# Altium schematic symbol library Schlib1.SchLib: 3 symbols
Pins are listed as number, name and electrical type; pins without a type are passive.

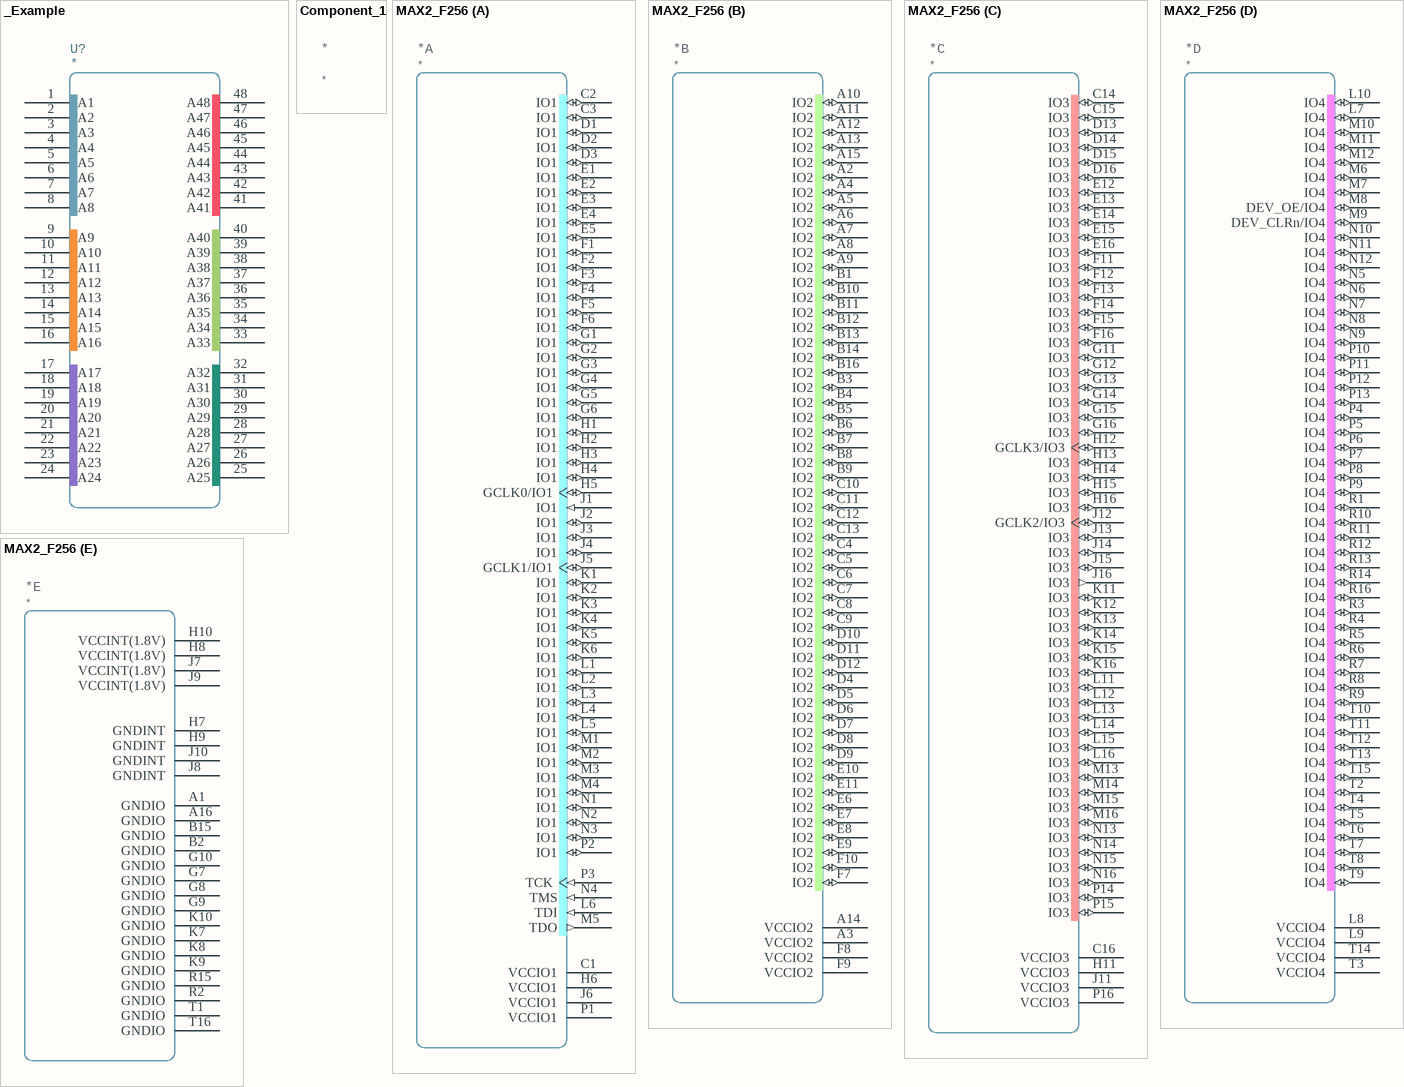
[diagram p0: symbols _Example to MAX2_F256]

## _Example
designator U?
pins: 1 A1, 2 A2, 3 A3, 4 A4, 5 A5, 6 A6, 7 A7, 8 A8, 9 A9, 10 A10, 11 A11, 12 A12, 13 A13, 14 A14, 15 A15, 16 A16, 17 A17, 18 A18, 19 A19, 20 A20, 21 A21, 22 A22, 23 A23, 24 A24, 25 A25, 26 A26, 27 A27, 28 A28, 29 A29, 30 A30, 31 A31, 32 A32, 33 A33, 34 A34, 35 A35, 36 A36, 37 A37, 38 A38, 39 A39, 40 A40, 41 A41, 42 A42, 43 A43, 44 A44, 45 A45, 46 A46, 47 A47, 48 A48

## Component_1
designator *

## MAX2_F256
designator *
part A pins: C1 VCCIO1, C2 IO1 (io), C3 IO1 (io), D1 IO1 (io), D2 IO1 (io), D3 IO1 (io), E1 IO1 (io), E2 IO1 (io), E3 IO1 (io), E4 IO1 (io), E5 IO1 (io), F1 IO1 (io), F2 IO1 (io), F3 IO1 (io), F4 IO1 (io), F5 IO1 (io), F6 IO1 (io), G1 IO1 (io), G2 IO1 (io), G3 IO1 (io), G4 IO1 (io), G5 IO1 (io), G6 IO1 (io), H1 IO1 (io), H2 IO1 (io), H3 IO1 (io), H4 IO1 (io), H5 GCLK0/IO1 (io), H6 VCCIO1, J1 IO1 (in), J2 IO1 (io), J3 IO1 (io), J4 IO1 (io), J5 GCLK1/IO1 (io), J6 VCCIO1, K1 IO1 (io), K2 IO1 (io), K3 IO1 (io), K4 IO1 (io), K5 IO1 (io), K6 IO1 (io), L1 IO1 (io), L2 IO1 (io), L3 IO1 (io), L4 IO1 (io), L5 IO1 (io), L6 TDI (in), M1 IO1 (io), M2 IO1 (io), M3 IO1 (io), M4 IO1 (io), M5 TDO (out), N1 IO1 (io), N2 IO1 (io), N3 IO1 (io), N4 TMS (in), P1 VCCIO1, P2 IO1 (io), P3 TCK (in)
part B pins: A2 IO2 (io), A3 VCCIO2, A4 IO2 (io), A5 IO2 (io), A6 IO2 (io), A7 IO2 (io), A8 IO2 (io), A9 IO2 (io), A10 IO2 (io), A11 IO2 (io), A12 IO2 (io), A13 IO2 (io), A14 VCCIO2, A15 IO2 (io), B1 IO2 (io), B3 IO2 (io), B4 IO2 (io), B5 IO2 (io), B6 IO2 (io), B7 IO2 (io), B8 IO2 (io), B9 IO2 (io), B10 IO2 (io), B11 IO2 (io), B12 IO2 (io), B13 IO2 (io), B14 IO2 (io), B16 IO2 (io), C4 IO2 (io), C5 IO2 (io), C6 IO2 (io), C7 IO2 (io), C8 IO2 (io), C9 IO2 (io), C10 IO2 (io), C11 IO2 (io), C12 IO2 (io), C13 IO2 (io), D4 IO2 (io), D5 IO2 (io), D6 IO2 (io), D7 IO2 (io), D8 IO2 (io), D9 IO2 (io), D10 IO2 (io), D11 IO2 (io), D12 IO2 (io), E6 IO2 (io), E7 IO2 (io), E8 IO2 (io), E9 IO2 (io), E10 IO2 (io), E11 IO2 (io), F7 IO2 (io), F8 VCCIO2, F9 VCCIO2, F10 IO2 (io)
part C pins: C14 IO3 (io), C15 IO3 (io), C16 VCCIO3, D13 IO3 (io), D14 IO3 (io), D15 IO3 (io), D16 IO3 (io), E12 IO3 (io), E13 IO3 (io), E14 IO3 (io), E15 IO3 (io), E16 IO3 (io), F11 IO3 (io), F12 IO3 (io), F13 IO3 (io), F14 IO3 (io), F15 IO3 (io), F16 IO3 (io), G11 IO3 (io), G12 IO3 (io), G13 IO3 (io), G14 IO3 (io), G15 IO3 (io), G16 IO3 (io), H11 VCCIO3, H12 GCLK3/IO3 (io), H13 IO3 (io), H14 IO3 (io), H15 IO3 (io), H16 IO3 (io), J11 VCCIO3, J12 GCLK2/IO3 (io), J13 IO3 (io), J14 IO3 (io), J15 IO3 (io), J16 IO3 (out), K11 IO3 (io), K12 IO3 (io), K13 IO3 (io), K14 IO3 (io), K15 IO3 (io), K16 IO3 (io), L11 IO3 (io), L12 IO3 (io), L13 IO3 (io), L14 IO3 (io), L15 IO3 (io), L16 IO3 (io), M13 IO3 (io), M14 IO3 (io), M15 IO3 (io), M16 IO3 (io), N13 IO3 (io), N14 IO3 (io), N15 IO3 (io), N16 IO3 (io), P14 IO3 (io), P15 IO3 (io), P16 VCCIO3
part D pins: L7 IO4 (io), L8 VCCIO4, L9 VCCIO4, L10 IO4 (io), M6 IO4 (io), M7 IO4 (io), M8 DEV_OE/IO4 (io), M9 DEV_CLRn/IO4 (io), M10 IO4 (io), M11 IO4 (io), M12 IO4 (io), N5 IO4 (io), N6 IO4 (io), N7 IO4 (io), N8 IO4 (io), N9 IO4 (io), N10 IO4 (io), N11 IO4 (io), N12 IO4 (io), P4 IO4 (io), P5 IO4 (io), P6 IO4 (io), P7 IO4 (io), P8 IO4 (io), P9 IO4 (io), P10 IO4 (io), P11 IO4 (io), P12 IO4 (io), P13 IO4 (io), R1 IO4 (io), R3 IO4 (io), R4 IO4 (io), R5 IO4 (io), R6 IO4 (io), R7 IO4 (io), R8 IO4 (io), R9 IO4 (io), R10 IO4 (io), R11 IO4 (io), R12 IO4 (io), R13 IO4 (io), R14 IO4 (io), R16 IO4 (io), T2 IO4 (io), T3 VCCIO4, T4 IO4 (io), T5 IO4 (io), T6 IO4 (io), T7 IO4 (io), T8 IO4 (io), T9 IO4 (io), T10 IO4 (io), T11 IO4 (io), T12 IO4 (io), T13 IO4 (io), T14 VCCIO4, T15 IO4 (io)
part E pins: A1 GNDIO, A16 GNDIO, B2 GNDIO, B15 GNDIO, G7 GNDIO, G8 GNDIO, G9 GNDIO, G10 GNDIO, H7 GNDINT, H8 VCCINT(1.8V), H9 GNDINT, H10 VCCINT(1.8V), J7 VCCINT(1.8V), J8 GNDINT, J9 VCCINT(1.8V), J10 GNDINT, K7 GNDIO, K8 GNDIO, K9 GNDIO, K10 GNDIO, R2 GNDIO, R15 GNDIO, T1 GNDIO, T16 GNDIO